# Altium footprint library 0705530003.PcbLib: 2 footprints
Each footprint in its own frame and in the unit in brackets; x right, y up, seen from the top. Pads: shape width x height; smd on the part's side, far side on the other; paste and mask are expansions set on the pad; w line width, h text height; cw(c..) or ccw(c..) is an arc to the next point about the centre after c.
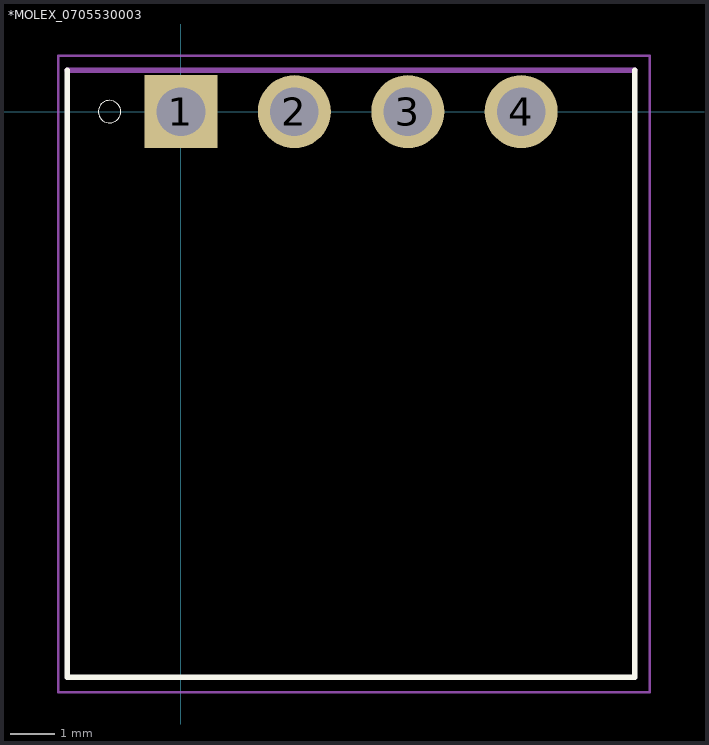
[diagram p0: the footprints below, top view; thin cyan lines are the x and y axes]

## *MOLEX_0705530003 [mm]
pads (4):
  rect 1.635x1.635 hole 1.09: 1(0,0)
  round 1.635 hole 1.09: 2(2.54,0) 3(5.08,0) 4(7.62,0)
Top Overlay:
  circle w0: c-1.6,0 r0.25
  lines w0.127: -2.545,0.925 -2.545,-12.665 10.165,-12.665 10.165,0.925
Mechanical 4:
  lines w0.127: -2.545,0.925 10.165,0.925 -2.545,0.925
Mechanical 16:
  lines w0.05: -2.75,-13 10.5,-13 10.5,1.25 -2.75,1.25 -2.75,-13

## PCBComponent_1 [mil]